# Altium footprint library ebf EP4CE10 Pro_20200309_PCB库_AD格式.PcbLib: 62 footprints (part 1 of 4)
Each footprint in its own frame and in the unit in brackets; x right, y up, seen from the top. Pads: shape width x height; smd on the part's side, far side on the other; paste and mask are expansions set on the pad; w line width, h text height; cw(c..) or ccw(c..) is an arc to the next point about the centre after c.
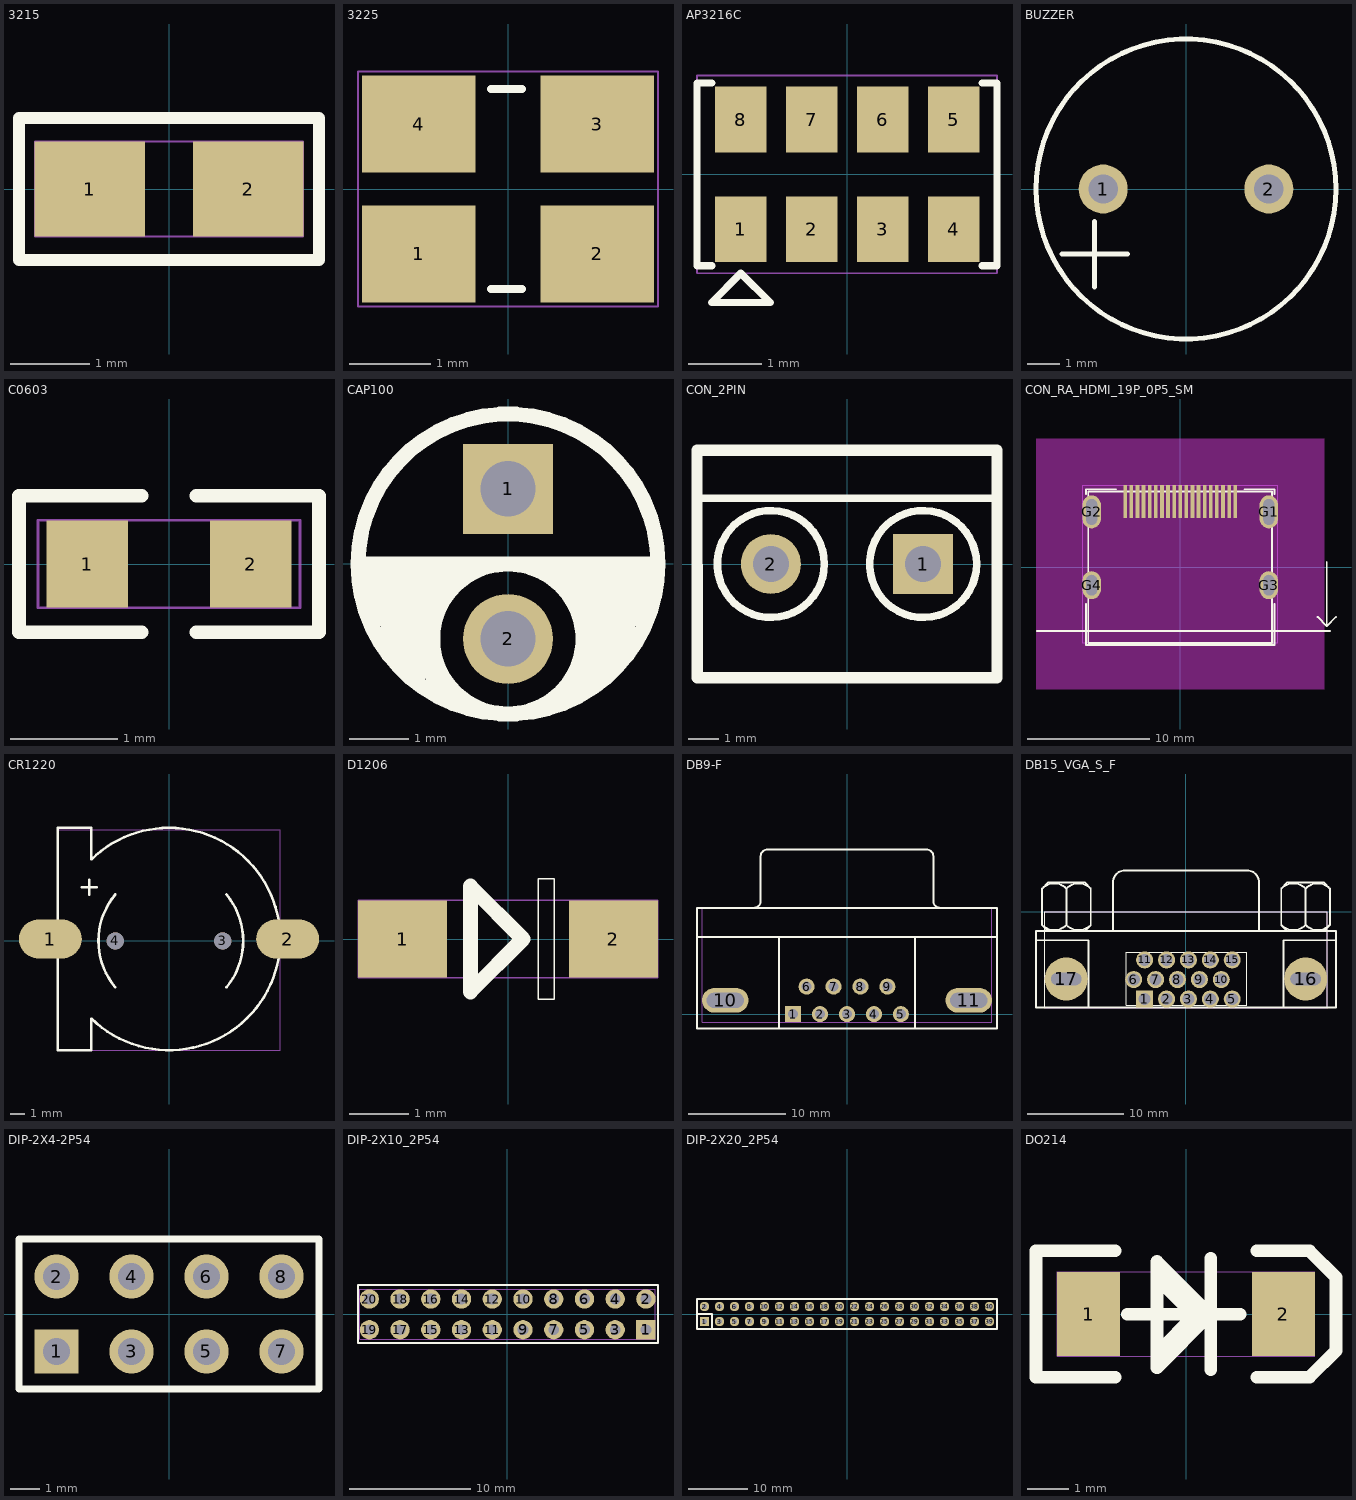
[diagram p0: the footprints below, top view; thin cyan lines are the x and y axes]

## 3215 [mil]
pads (2):
  rect 55.1x47.2 smd mask+2: 1(-39.4,0) 2(39.4,0)
Top Overlay:
  lines w5.9: -74.8,-35.4 74.8,-35.4 74.8,35.4 -74.8,35.4 -74.8,-35.4
Top Assembly:
  text "Y5" at -38.92,-25 h50
Mechanical 20:
  lines w1: -66.9,-23.6 -66.9,23.6 66.9,23.6 66.9,-23.6 -66.9,-23.6

## 3225 [mil]
pads (4):
  rect 55.1x47.2 smd mask+2: 1(-43.3,-31.5) 2(43.3,-31.5) 3(43.3,31.5) 4(-43.3,31.5)
Top Overlay:
  lines w3.9: -8.3,-48.5 6.7,-48.5 ; -8.3,48.5 6.7,48.5
Top Assembly:
  text "Y7" at -38.92,-25 h50
Mechanical 20:
  lines w1: -72.8,-57.1 72.8,-57.1 72.8,57.1 -72.8,57.1 -72.8,-57.1

## AP3216C [mil]
pads (8):
  rect 27.6x35.4 smd mask+1: 1(-57.3,-29.5) 2(-19.1,-29.5) 3(19.1,-29.5) 4(57.3,-29.5) 5(57.3,29.5) 6(19.1,29.5) 7(-19.1,29.5) 8(-57.3,29.5)
Top Overlay:
  lines w3.9: -73,-49.2 -80.9,-49.2 -80.9,49.2 -73,49.2 ; 72.6,-49.2 80.5,-49.2 80.5,49.2 72.6,49.2 ; -73,-68.9 -41.5,-68.9 -57.3,-53.2 -73,-68.9
Top Assembly:
  text "U16" at -57.37,-25 h50
Mechanical 20:
  lines w1: -80.9,-53.2 80.5,-53.2 80.5,53.2 -80.9,53.2 -80.9,-53.2

## BUZZER [mil]
pads (2):
  round 59.1 hole 35.4 mask+2: 1(-100,0) 2(100,0)
Top Overlay:
  circle w6: c0,0 r181.1
  lines w6: -149.6,-78.7 -70.9,-78.7 ; -110.2,-118.1 -110.2,-39.4
Top Assembly:
  text "PZ1" at -50.47,-25 h50
Mechanical 20:
  circle w1: c0,0 r181.1

## C0603 [mil]
pads (2):
  rect 30x32 smd mask+2.5: 1(-30,0) 2(30,0)
Top Overlay:
  lines w5: -10,-25 -55,-25 -55,25 -10,25 ; 10,-25 55,-25 55,25 10,25
Top Assembly:
  text "C95" at -63.8,-25 h50
Mechanical 20:
  lines w1: -48,-16 -48,16 48,16 48,-16 -48,-16

## CAP100 [mil]
pads (2):
  rect 60x60 hole 37 mask+2: 1(0,50)
  round 60 hole 37 mask+2: 2(0,-50)
Top Overlay:
  circle w10: c0,0 r100
  lines w10: -100,0 100,0 ; -90,-40 -90,0 ; -80,-60 -80,-5 ; -70,-70 -70,-5 ; -60,-75 -60,-5 ; -50,-85 -50,0 ; -45,-85 -45,-80 ; -40,-20 -40,0 ; -30,-10 -30,0 ; 35,-10 35,-5 ; 40,-20 40,-5 ; 45,-85 45,-80 ; 50,-85 50,-5 ; 60,-80 60,-5 ; 70,-70 70,-5 ; 80,-60 80,-5 ; 90,-40 90,-5 ; 0,-100 ccw(c0,-50) 0,0 ccw(c-0.26,-50) 0,-100
Top Assembly:
  text "C88" at -63.8,-25 h50
Mechanical 20:
  circle w1: c0,0 r100

## CON_2PIN [mil]
pads (2):
  rect 78.7x78.7 hole 47.2 mask+2: 1(100,0)
  round 78.7 hole 47.2 mask+2: 2(-100,0)
Top Overlay:
  circle w10: c100,0 r70.2
  circle w10: c-100,0 r70.2
  lines w10: -197,86.6 197,86.6
  lines w15: -197,149.6 197,149.6 197,-149.6 -196.8,-149.6 -197,149.6
Top Assembly:
  text "J9" at -33.8,-25 h50
Mechanical 20:
  lines w1: -197,-149.6 197,-149.6 197,149.6 -197,149.6 -197,-149.6

## CON_RA_HDMI_19P_0P5_SM [mil]
pads (23):
  rect 12x106 smd mask+2: 1(177.2,211.6) 2(157.5,211.6) 3(137.8,211.6) 4(118.1,211.6) 5(98.4,211.6) 6(78.7,211.6) 7(59.1,211.6) 8(39.4,211.6) 9(19.7,211.6) 10(0,211.6) 11(-19.7,211.6) 12(-39.4,211.6) 13(-59.1,211.6) 14(-78.7,211.6) 15(-98.4,211.6) 16(-118.1,211.6) 17(-137.8,211.6) 18(-157.5,211.6) 19(-177.2,211.6)
  oval 59x106 hole 35 slot 83 at 90 deg mask+2: G1(285.4,178.2) G2(-285.4,178.2)
  oval 59x90 hole 35 slot 66 at 90 deg mask+2: G3(285.4,-58.1) G4(-285.4,-58.1)
Top Layer keep-out:
  region: -464.9,-394.1 -464.9,414.6 464.9,414.6 464.9,-394.1
Top Overlay:
  lines w6: -462.6,-205.7 285.4,-205.7 482.3,-205.7 ; -303.3,-118.1 -303.3,-251.1 303.3,-251.1 303.3,-118.1 ; -303.3,236.2 -303.3,251.1 -206.7,251.1 ; 206.7,251.1 303.3,251.1 303.3,236.2 ; 442.9,-160.4 472.4,-190 ; 472.4,16.7 472.4,-190 ; 502,-160.4 472.4,-190 ; -296.3,-244.1 -296.3,244.1 296.3,244.1 296.3,-244.1 -296.3,-244.1
Top Assembly:
  text "J23" at -57.25,-25 h50
Mechanical 20:
  lines w1: -314.9,-244.1 -314.9,264.6 314.9,264.6 314.9,-244.1 -314.9,-244.1

## CR1220 [mil]
pads (4):
  oval 169.3x106.3 smd mask+1.95: 1(-320,5) 2(320,5)
  round 46 hole 46 unplated mask+2: 3(145,0) 4(-145,0)
Top Overlay:
  lines w7: -235,145 -195,145 ; -215,125 -215,165 ; -209.6,-209.6 -210,-295 -300,-295 -300,5 -300,305 -210,305 -209.6,219.6 ; -209.51,-209.69 ccw(c0.01,5.01) 298.19,-27.9 ; -209.46,219.73 cw(c0,5.09) 0,305 cw(c0,5) 298.19,37.92 ; -145.25,-124.74 cw(c4.99,-0.01) -145.03,124.98 ; 155.02,-124.98 ccw(c5,0.01) 155.02,125
Top Assembly:
  text "CN1" at -54.39,-25 h50
Mechanical 20:
  lines w1: -300,-295 -300,300 300,300 300,-295 -300,-295

## D1206 [mil]
pads (2):
  rect 59.1x51.2 smd mask+2: 1(-70,0) 2(70,0)
Top Overlay:
  lines w1: 20,-40 20,40 30.7,40 30.7,-40 20,-40
  lines w10: -25,-35 -25,35 10,0 -25,-35
Top Assembly:
  text "D5" at -38.92,-25 h50
Mechanical 20:
  lines w1: -99.5,-25.6 99.5,-25.6 99.5,25.6 -99.5,25.6 -99.5,-25.6

## DB9-F [mil]
pads (11):
  rect 65x65 hole 40 mask+2: 1(-218.1,0)
  round 65 hole 40 mask+2: 2(-109.1,0) 3(0,0) 4(109.1,0) 5(218.1,0) 6(-163.6,111.8) 7(-54.5,111.8) 8(54.5,111.8) 9(163.6,111.8)
  oval 188x100 hole 60 slot 150 at 0 deg mask+2: 10(-491.9,55.9) 11(491.9,55.9)
Top Overlay:
  lines w7.9: -606.3,311.8 606.3,311.8 ; -376.42,430.1 ccw(c-376.37,457.47) -349,457.47 ; -349,457.5 -348.8,638.8 cw(c-321.46,638.76) -321.51,666.1 321.5,666.1 cw(c321.46,638.76) 348.8,638.8 349,457.5 ccw(c376.37,457.47) 376.37,430.1 ; -275.6,-58.3 -275.6,311.8 ; 275.6,-58.3 275.6,311.8 ; -606.3,-58.3 -606.3,429.9 606.3,429.9 606.3,-58.3 -606.3,-58.3
Top Assembly:
  text "CON1" at -79.27,-25 h50
Mechanical 20:
  lines w1: -585.6,-32.5 585.6,-32.5 585.6,429.9 -585.6,429.9 -585.6,-32.5

## DB15_VGA_S_F [mil]
pads (17):
  rect 70x70 hole 50 mask+1.95: 1(-169.8,-358.1)
  round 70 hole 50 mask+1.95: 2(-79.8,-358.1) 3(10.2,-358.1) 4(100.2,-358.1) 5(190.2,-358.1) 6(-214.8,-277.8) 7(-124.8,-277.8) 8(-34.8,-277.8) 9(55.2,-277.8) 10(145.2,-277.8) 11(-169.8,-197.4) 12(-79.8,-197.4) 13(10.2,-197.4) 14(100.2,-197.4) 15(190.2,-197.4)
  rrect100% 177x177 hole 50 slot 125 at 0 deg mask+1.95: 16(492.1,-275.6) 17(-492.1,-275.6)
Top Overlay:
  lines w1: -580.6,-393.1 580.6,-393.1 580.6,0 -580.6,0 -580.6,-393.1 ; -245.6,-383.8 -245.6,-166.4 249.3,-166.4 249.3,-383.8 -245.6,-383.8
  lines w8: -616.5,-116.3 -399.8,-116.3 -399.8,-393.7 ; -591.58,-53.82 ccw(c-541.5,-3.73) -491.42,-53.82 -491.4,96.4 ccw(c-541.5,46.28) -591.61,96.39 ; -566.5,-78.7 -591.5,-53.7 -591.5,96.3 -566.5,121.3 -416.5,121.3 -391.5,96.3 -391.5,-53.7 -416.5,-78.7 ; -491.58,-53.82 ccw(c-441.5,-3.73) -391.42,-53.82 ; -491.61,96.39 cw(c-441.5,46.28) -391.39,96.39 ; -299.8,-78.7 -299.8,121.3 cw(c-249.79,121.29) -249.79,171.3 250.2,171.3 cw(c250.19,121.29) 300.2,121.29 300.2,-78.7 ; 391.79,-53.79 ccw(c441.85,-3.73) 491.91,-53.79 ; 391.85,96.45 cw(c441.85,46.27) 491.94,96.36 ; 400.2,-393.7 400.2,-116.3 616.9,-116.3 ; 416.9,-78.7 391.9,-53.7 391.9,96.3 416.9,121.3 566.9,121.3 591.9,96.3 591.9,-53.7 566.9,-78.7 ; 491.8,96.4 491.8,-53.8 ccw(c541.85,-3.73) 591.91,-53.79 ; 491.85,96.45 cw(c541.85,46.27) 591.94,96.36 ; -616.5,-393.7 -616.5,-78.7 616.9,-78.7 616.9,-393.7 -616.5,-393.7
Bottom Overlay:
  lines w1: -243.9,-384.1 -243.9,-166.8 251.1,-166.8 251.1,-384.1 -243.9,-384.1
Top Assembly:
  text "CJ1" at -49.16,-25 h50
Mechanical 20:
  lines w1: -580.6,-393.1 580.6,-393.1 580.6,0 -580.6,0 -580.6,-393.1

## DIP-2X4-2P54 [mil]
pads (8):
  rect 59.1x59.1 hole 35.4 mask+2: 1(-150,-50)
  round 59.1 hole 35.4 mask+2: 2(-150,50) 3(-50,-50) 4(-50,50) 5(50,-50) 6(50,50) 7(150,-50) 8(150,50)
Top Overlay:
  lines w8.7: -189.4,100 -200,100 ; -200,100 -200,-100 200,-100 200,100 -200,100
Top Assembly:
  text "J6" at -33.8,-25 h50
Mechanical 20:
  lines w1: -200,-100 -200,100 200,100 200,-100 -200,-100

## DIP-2X10_2P54 [mil]
pads (20):
  rect 63x63 hole 35.4 mask+2: 1(451.6,-50)
  round 63 hole 35.4 mask+2: 2(451.6,50) 3(351.6,-50) 4(351.6,50) 5(251.6,-50) 6(251.6,50) 7(151.6,-50) 8(151.6,50) 9(51.6,-50) 10(51.6,50) 11(-48.4,-50) 12(-48.4,50) 13(-148.4,-50) 14(-148.4,50) 15(-248.4,-50) 16(-248.4,50) 17(-348.4,-50) 18(-348.4,50) 19(-448.4,-50) 20(-448.4,50)
Top Overlay:
  lines w5.9: -485.4,-93.3 -485.4,95.7 490.9,95.7 490.9,-93.3 -485.4,-93.3
Top Assembly:
  text "J11" at -42.61,-25 h50
Mechanical 20:
  lines w1: -479.9,-81.5 -479.9,81.5 481.5,81.5 481.5,-81.5 -479.9,-81.5

## DIP-2X20_2P54 [mil]
pads (40):
  rect 63x63 hole 35.4 mask+2: 1(-950,-50)
  round 63 hole 35.4 mask+2: 2(-950,50) 3(-850,-50) 4(-850,50) 5(-750,-50) 6(-750,50) 7(-650,-50) 8(-650,50) 9(-550,-50) 10(-550,50) 11(-450,-50) 12(-450,50) 13(-350,-50) 14(-350,50) 15(-250,-50) 16(-250,50) 17(-150,-50) 18(-150,50) 19(-50,-50) 20(-50,50) 21(50,-50) 22(50,50) 23(150,-50) 24(150,50) 25(250,-50) 26(250,50) 27(350,-50) 28(350,50) 29(450,-50) 30(450,50) 31(550,-50) 32(550,50) 33(650,-50) 34(650,50) 35(750,-50) 36(750,50) 37(850,-50) 38(850,50) 39(950,-50) 40(950,50)
Top Overlay:
  lines w12: -1000,0 -900,0 -900,-100 ; -1000,-100 -1000,100 1000,100 1000,-100 -1000,-100
Top Assembly:
  text "CN3" at -65.11,-25 h50
Mechanical 20:
  lines w1: -1000,-100 1000,-100 1000,100 -1000,100 -1000,-100

## DO214 [mil]
pads (2):
  rect 60x80 smd mask+2: 1(-92.5,0) 2(92.5,0)
Top Overlay:
  lines w1: -27.6,-25.1 -27.6,22.9 -1.5,22.9 -1.5,-25.1 -27.6,-25.1
  lines w12: -67.5,-60 -142.5,-60 -142.5,60 -67.5,60 ; -55.6,-0.1 51.4,-0.1 ; -27.6,33.9 7.8,-1.5 -25.8,-35.1 ; 23.4,-53.1 23.4,52.9 ; 67.5,-60 117.4,-60 142.5,-34.9 142.5,34.9 117.4,60 67.5,60 ; -27.6,-51.1 23.4,-0.1 23.4,-1.1 -27.6,49.9 -27.6,-51.1
Top Assembly:
  text "D2" at -38.92,-25 h50
Mechanical 20:
  lines w1: -122.5,-40 122.5,-40 122.5,40 -122.5,40 -122.5,-40